# Altium schematic symbol library F103_Board.SchLib: 3 symbols
Pins are listed as number, name and electrical type; pins without a type are passive.

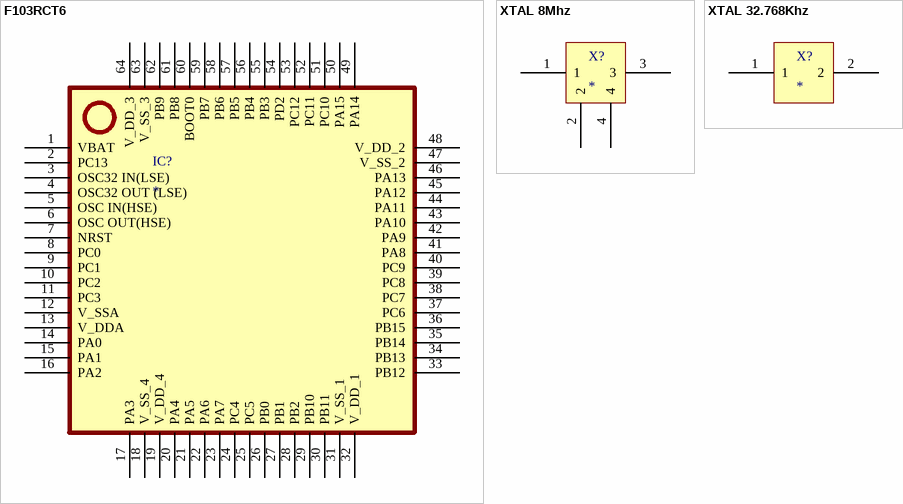
[diagram p0: symbols F103RCT6 to XTAL 32.768Khz]

## F103RCT6
designator IC?
STM32F103RCT6 LQFP64
footprint F103 (TSQFP, 64-Leads, Body 10.00x10.00mm, Pitch 0.50mm, IPC Low Density)
pins: 1 VBAT, 2 PC13, 3 OSC32 IN(LSE), 4 OSC32 OUT (LSE), 5 OSC IN(HSE), 6 OSC OUT(HSE), 7 NRST, 8 PC0, 9 PC1, 10 PC2, 11 PC3, 12 V_SSA, 13 V_DDA, 14 PA0, 15 PA1, 16 PA2, 17 PA3, 18 V_SS_4, 19 V_DD_4, 20 PA4, 21 PA5, 22 PA6, 23 PA7, 24 PC4, 25 PC5, 26 PB0, 27 PB1, 28 PB2, 29 PB10, 30 PB11, 31 V_SS_1, 32 V_DD_1, 33 PB12, 34 PB13, 35 PB14, 36 PB15, 37 PC6, 38 PC7, 39 PC8, 40 PC9, 41 PA8, 42 PA9, 43 PA10, 44 PA11, 45 PA12, 46 PA13, 47 V_SS_2, 48 V_DD_2, 49 PA14, 50 PA15, 51 PC10, 52 PC11, 53 PC12, 54 PD2, 55 PB3, 56 PB4, 57 PB5, 58 PB6, 59 PB7, 60 BOOT0, 61 PB8, 62 PB9, 63 V_SS_3, 64 V_DD_3

## XTAL 8Mhz
designator X?
8Mhz XTAL  SMD3225-4P
footprint XTAL 8Mhz
pins: 1, 2, 3, 4

## XTAL 32.768Khz
designator X?
32.768Khz XTAL  SMD3215-2P
footprint XTAL 32.768Khz
pins: 1, 2